# Altium footprint library Crystal Oscillator.PcbLib: 23 footprints (part 1 of 2)
Each footprint in its own frame and in the unit in brackets; x right, y up, seen from the top. Pads: shape width x height; smd on the part's side, far side on the other; paste and mask are expansions set on the pad; w line width, h text height; cw(c..) or ccw(c..) is an arc to the next point about the centre after c.
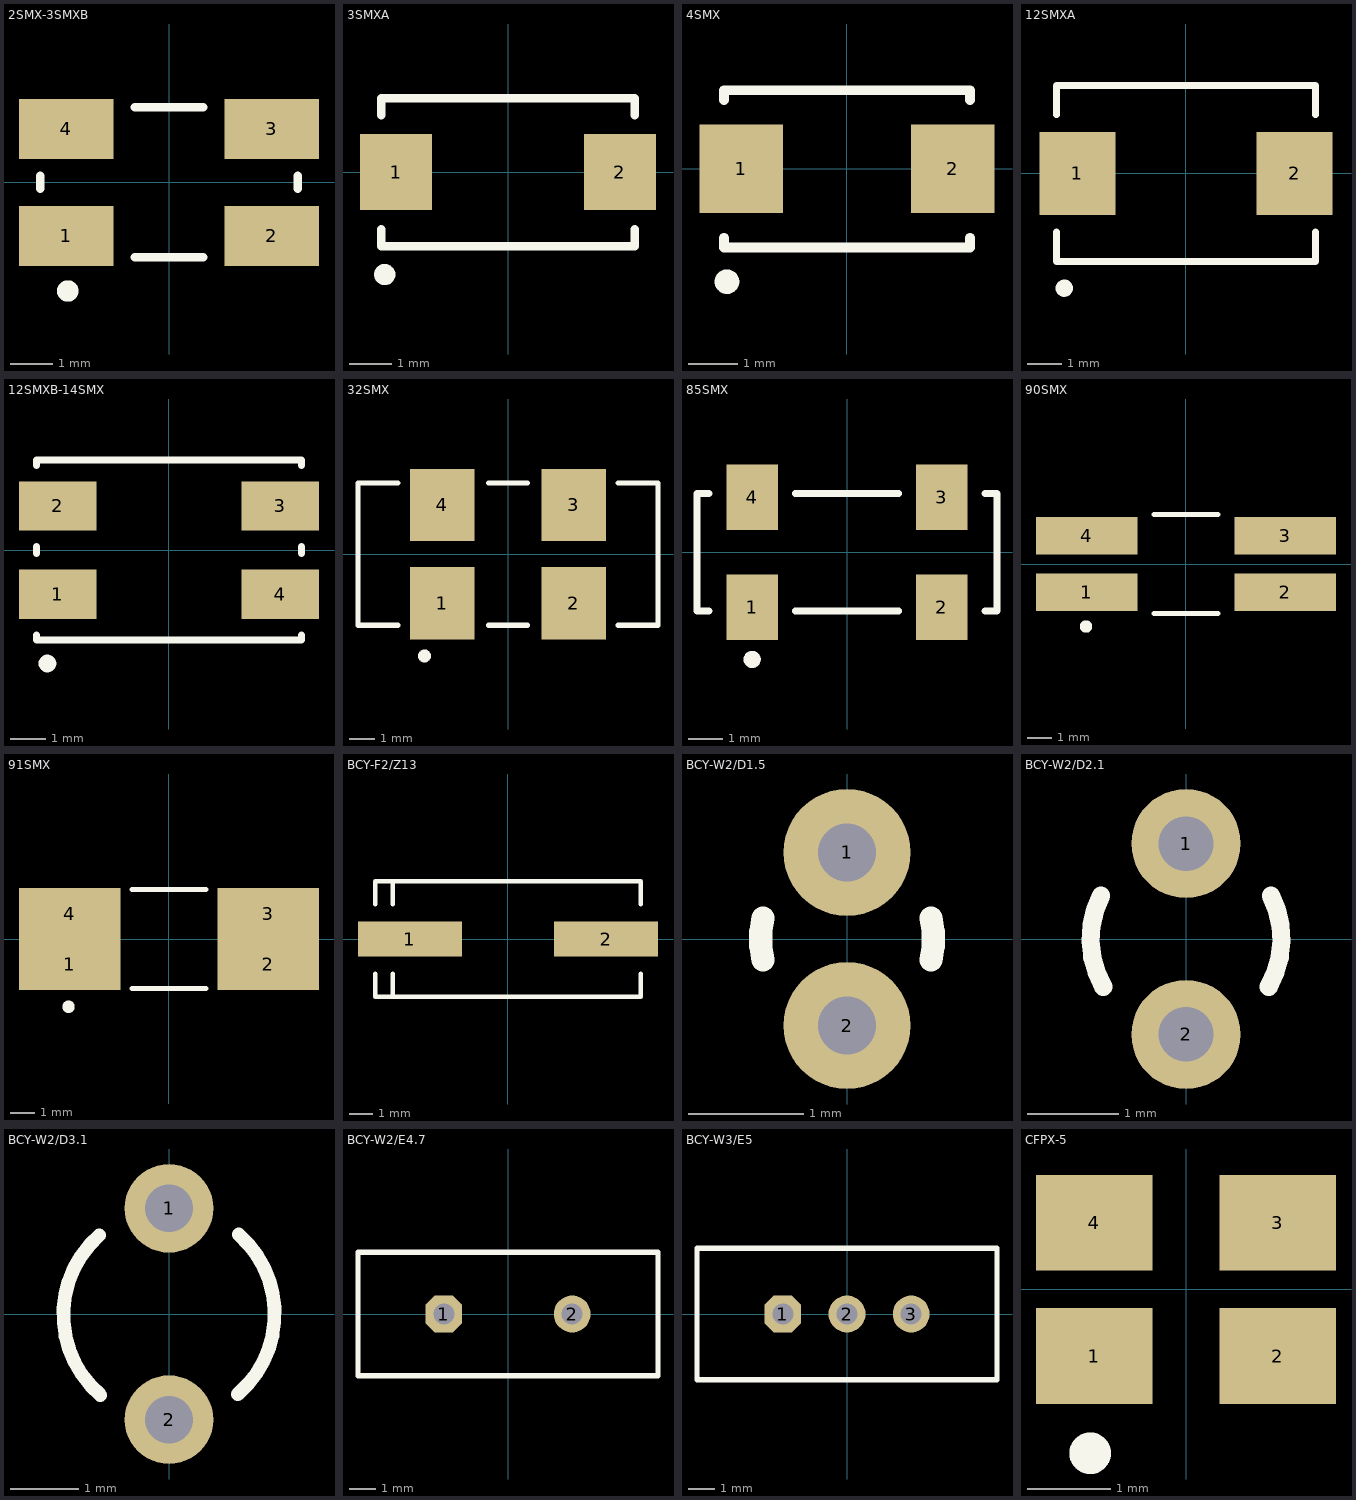
[diagram p0: the footprints below, top view; thin cyan lines are the x and y axes]

## 2SMX-3SMXB [mm] "Quartz Crystal, SM; Body 6.0 x 3.5 mm (LxW)"
height 1
pads (4):
  rect 2.2x1.4 smd: 1(-2.4,-1.25) 2(2.4,-1.25) 3(2.4,1.25) 4(-2.4,1.25)
Top Overlay:
  circle w0.25: c-2.362,-2.534 r0.125
  lines w0.2: -3,-0.15 -3,0.15 ; -0.8,-1.75 0.8,-1.75 ; -0.8,1.75 0.8,1.75 ; 3,-0.15 3,0.15

## 3SMXA [mm] "Quartz Crystal, SM; Body 6.2 x 3.7 mm (LxW max)"
height 1.3
pads (2):
  rect 1.7x1.8 smd: 1(-2.65,0) 2(2.65,0)
Top Overlay:
  circle w0.25: c-2.916,-2.424 r0.125
  lines w0.2: -3,-1.35 -3,-1.75 3,-1.75 3,-1.35 ; -3,1.35 -3,1.75 3,1.75 3,1.35

## 4SMX [mm] "Quartz Crystal, SM; Body 5.2 x 3.4 mm (LxW max)"
height 1
pads (2):
  rect 1.7x1.8 smd: 1(-2.15,0) 2(2.15,0)
Top Overlay:
  circle w0.25: c-2.441,-2.293 r0.125
  lines w0.2: -2.5,-1.4 -2.5,-1.6 2.5,-1.6 2.5,-1.4 ; -2.5,1.4 -2.5,1.6 2.5,1.6 2.5,1.4

## 12SMXA [mm] "Quartz Crystal, SM; Body 7.5 x 5.1 mm (LxW max)"
height 1.8
pads (2):
  rect 2.2x2.4 smd: 1(-3.15,0) 2(3.15,0)
Top Overlay:
  circle w0.25: c-3.532,-3.33 r0.125
  lines w0.2: -3.75,-1.7 -3.75,-2.55 3.75,-2.55 3.75,-1.7 ; -3.75,1.7 -3.75,2.55 3.75,2.55 3.75,1.7

## 12SMXB-14SMX [mm] "Quartz Crystal, SM; Body 7.5 x 5.1 mm (LxW max)"
height 1.8
pads (4):
  rect 2.2x1.4 smd: 1(-3.15,-1.25) 2(-3.15,1.25) 3(3.15,1.25) 4(3.15,-1.25)
Top Overlay:
  circle w0.25: c-3.444,-3.213 r0.125
  lines w0.2: -3.75,-2.4 -3.75,-2.55 3.75,-2.55 3.75,-2.4 ; -3.75,-0.1 -3.75,0.1 ; -3.75,2.4 -3.75,2.55 3.75,2.55 3.75,2.4 ; 3.75,-0.1 3.75,0.1

## 32SMX [mm] "Quartz Crystal, SM; Body 11.6 x 5.5 mm (LxW)"
height 2.2
pads (4):
  rect 2.5x2.8 smd: 1(-2.54,-1.9) 2(2.54,-1.9) 3(2.54,1.9) 4(-2.54,1.9)
Top Overlay:
  circle w0.25: c-3.231,-3.938 r0.125
  lines w0.2: -4.25,-2.75 -5.8,-2.75 -5.8,2.75 -4.25,2.75 ; -0.75,-2.75 0.75,-2.75 ; -0.75,2.75 0.75,2.75 ; 4.25,-2.75 5.8,-2.75 5.8,2.75 4.25,2.75

## 85SMX [mm] "Quartz Crystal, SM; Body 8.7 x 3.8 (inc. leads) mm (LxW)"
height 2.5
pads (4):
  rect 1.5x1.9 smd: 1(-2.75,-1.6) 2(2.75,-1.6) 3(2.75,1.6) 4(-2.75,1.6)
Top Overlay:
  circle w0.25: c-2.75,-3.11 r0.125
  lines w0.2: -4,-1.7 -4.35,-1.7 -4.35,1.7 -4,1.7 ; -1.5,-1.7 1.5,-1.7 ; -1.5,1.7 1.5,1.7 ; 4,-1.7 4.35,-1.7 4.35,1.7 4,1.7

## 90SMX [mm] "Quartz Crystal, SM; Body 10.4 x 4.0 mm (LxW)"
height 3.4
pads (4):
  rect 4.1x1.52 smd: 1(-4,-1.145) 2(4,-1.145) 3(4,1.145) 4(-4,1.145)
Top Overlay:
  circle w0.25: c-4.032,-2.522 r0.125
  lines w0.2: -1.3,-2 1.3,-2 ; -1.3,2 1.3,2

## 91SMX [mm] "Quartz Crystal, SM; Body 10.4 x 4.0 mm (LxW)"
height 3.4
pads (4):
  rect 4.1x2.05 smd: 1(-4,-1.025) 2(4,-1.025) 3(4,1.025) 4(-4,1.025)
Top Overlay:
  circle w0.25: c-4.052,-2.733 r0.125
  lines w0.2: -1.5,-2 1.5,-2 ; -1.5,2 1.5,2

## BCY-F2/Z13 [mm] "Quartz Crystal, SM; 2 Leads; Body 11.4 x 4.8 x 5 mm (LxWxH)"
height 5
pads (2):
  rect 4.5x1.5 smd: 1(-4.25,0) 2(4.25,0)
Top Overlay:
  lines w0.2: -5.75,-1.5 -5.75,-2.5 5.75,-2.5 5.75,-1.5 ; -5.75,1.5 -5.75,2.5 5.75,2.5 5.75,1.5 ; -5,-2.5 -5,-1.5 ; -5,1.5 -5,2.5

## BCY-W2/D1.5 [mm] "Crystal, Thru-Hole; 2 Leads; Body 1.5 x 5.1 mm (Dia.xH)"
height 5.1
pads (2):
  round 1.1 hole 0.5: 1(0,0.75) 2(0,-0.75)
Top Overlay:
  lines w0.2: -0.728,-0.181 cw(c0,0) -0.728,0.181 ; 0.728,-0.181 ccw(c0,0) 0.728,0.181

## BCY-W2/D2.1 [mm] "Crystal, Thru-Hole; 2 Leads; Body 2.1 x 6.2 mm (Dia.xH)"
height 6.2
pads (2):
  round 1.2 hole 0.6: 1(0,1.05) 2(0,-1.05)
Top Overlay:
  lines w0.2: -0.936,0.477 ccw(c0,0) -0.909,-0.525 ; 0.909,-0.525 ccw(c0,0) 0.936,0.477

## BCY-W2/D3.1 [mm] "Crystal, Thru-Hole; 2 Leads; Body 3.1 x 8.2 mm (Dia.xH)"
height 8.2
pads (2):
  round 1.3 hole 0.7: 1(0,1.55) 2(0,-1.55)
Top Overlay:
  lines w0.2: -1.022,1.155 ccw(c0,-0.01) -1.006,-1.189 ; 1.006,-1.179 ccw(c0,0) 1.022,1.165

## BCY-W2/E4.7 [mm] "Quartz Crystal, Thru-Hole; 2 Leads; Body 11.35 x 4.65 x 13.46 mm (LxWxH max)"
height 13.46
pads (2):
  oct 1.4x1.4 hole 0.8: 1(-2.44,0)
  round 1.4 hole 0.8: 2(2.44,0)
Top Overlay:
  lines w0.2: -5.7,-2.35 5.7,-2.35 5.7,2.35 -5.7,2.35 -5.7,-2.35

## BCY-W3/E5 [mm] "Quartz Crystal, Thru-Hole; 3 Leads; Body 11.35 x 5 x 3.5 mm (LxWxH max)"
height 3.5
pads (3):
  oct 1.4x1.4 hole 0.8: 1(-2.44,0)
  round 1.4 hole 0.8: 2(0,0) 3(2.44,0)
Top Overlay:
  lines w0.2: -5.7,-2.5 5.7,-2.5 5.7,2.5 -5.7,2.5 -5.7,-2.5

## CFPX-5 [mm] "Quartz Crystal, SM; Body 3.4 x 2.7 mm (LxW max)"
height 1
pads (4):
  rect 1.4x1.15 smd: 1(-1.1,-0.8) 2(1.1,-0.8) 3(1.1,0.8) 4(-1.1,0.8)
Top Overlay:
  circle w0.25: c-1.15,-1.967 r0.125